# Altium integrated library Analog Devices Data Converters Analog-to-Digital Converters.IntLib: 2404 symbols (part 139 of 346)
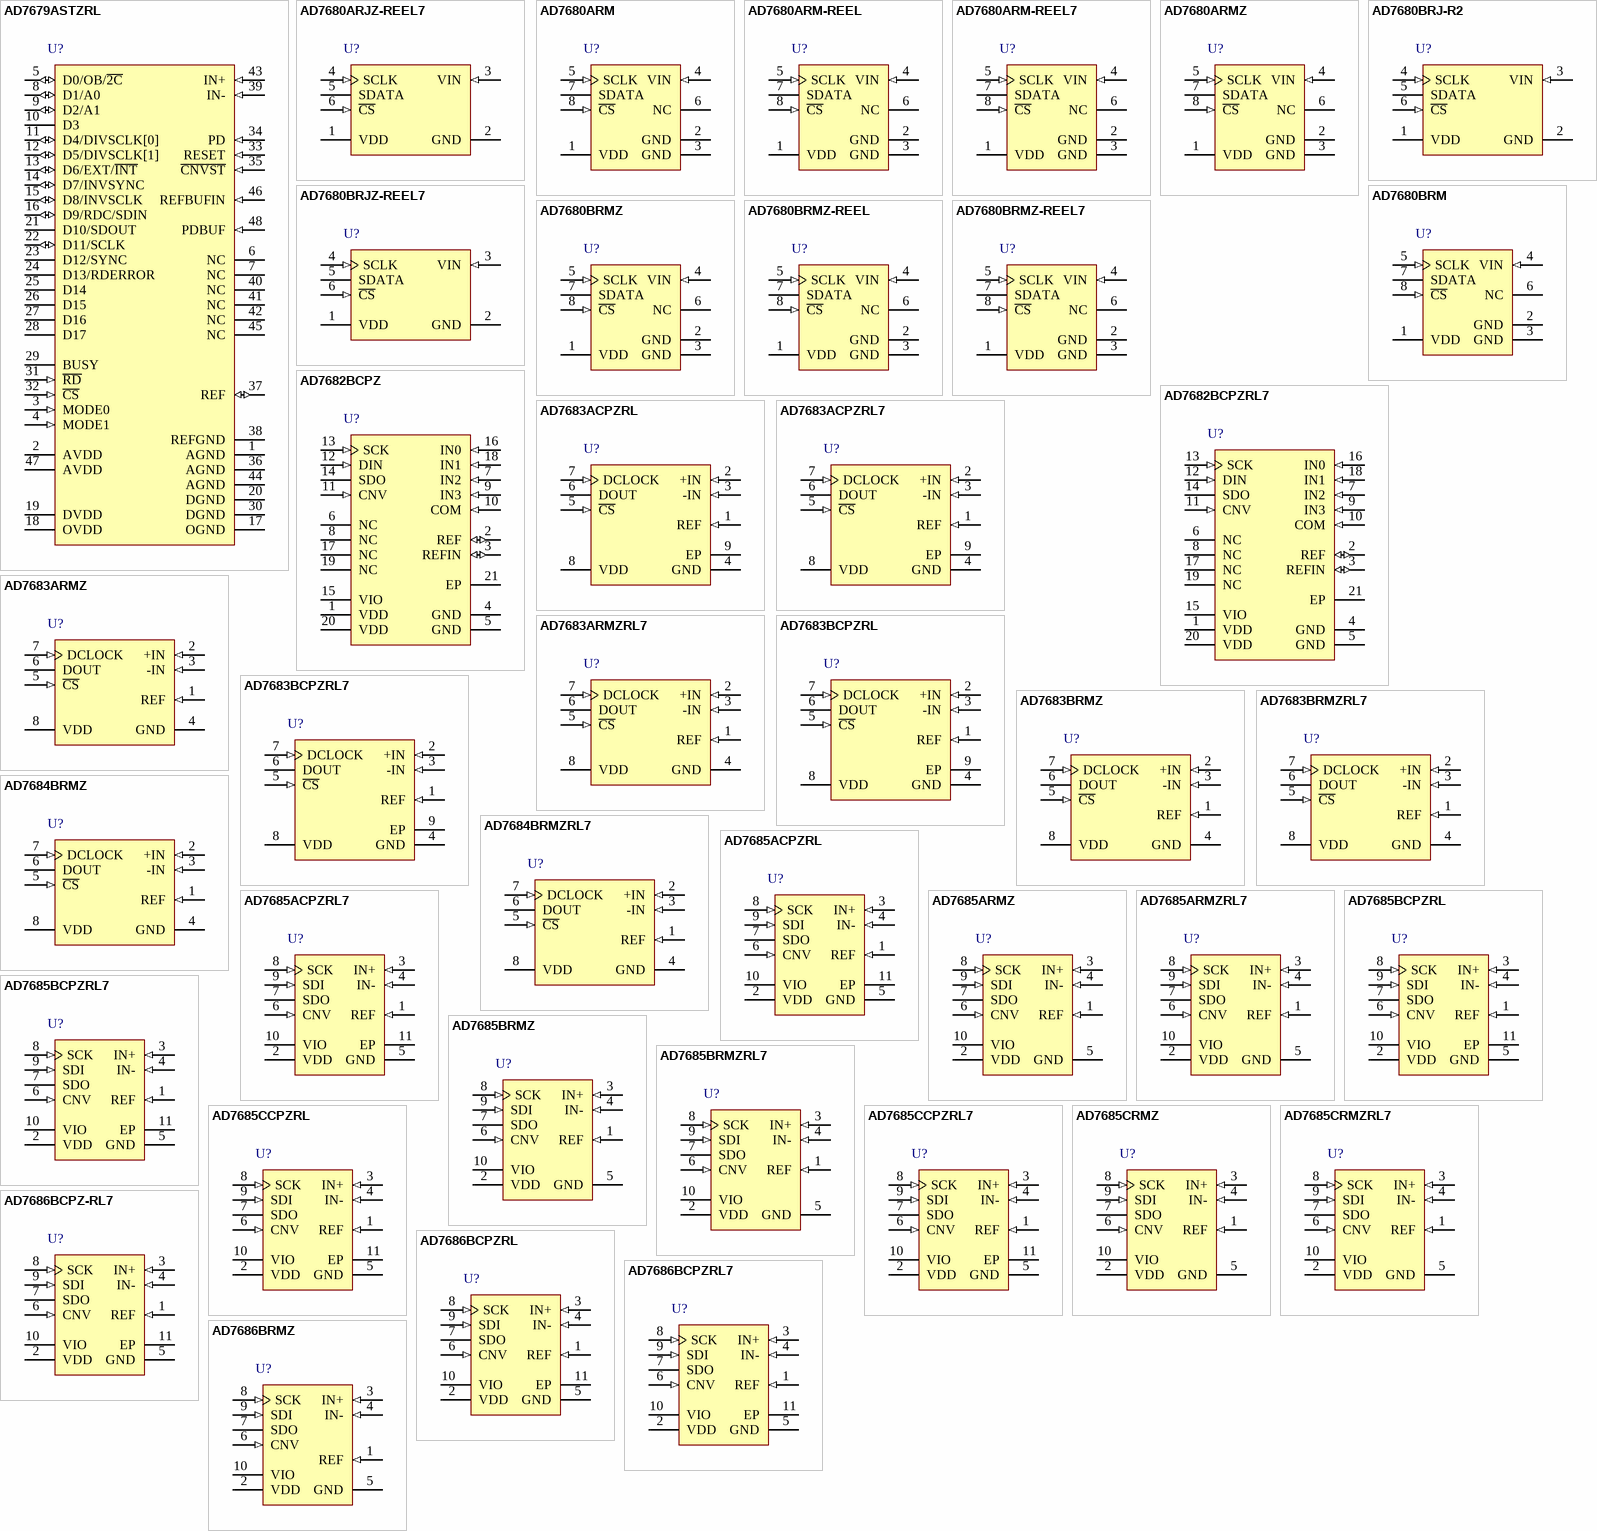
[diagram p232: symbols AD7679ASTZRL to AD7686BRMZ]

## AD7680ARM-REEL7
designator U?
Single 16-Bit Analog-to-Digital Converter with Serial, SPI Interface, 100KSPS, -40 to +85 degC, RM-8, Reel; Generic Part Number: AD7680; Manufacturer: Analog Devices; PartNumber: AD7680ARM-REEL7; Resolution (Bits): 16; Channels: 1; Throughput Rate (SPS): 100K; Interface: Ser, SPI; DatasheetVersion: Rev. A; PackageVersion: Aug-2005; PackageReference: RM-8; PackageDescription: 8-Lead Mini Small Outline Package [MSOP]; Supplier 1: Digi-Key; Supplier Part Number 1: AD7680ARM-REEL7-ND; Supplier 2: Mouser; Supplier Part Number 2: 584-AD7680ARM-R7; RoHS: N; Packing: Reel; Mounting Technology: Surface Mount; Code_JEDEC: MO-187-AA; ComponentLink1Description: Manufacturer URL; ComponentLink1URL: http://www.analog.com/en/index.html; ComponentLink2Description: Datasheet; ComponentLink2URL: http://www.analog.com/static/imported-files/data_sheets/AD7680.pdf; ComponentLink3Description: Package Specification; ComponentLink3URL: http://www.analog.com/static/imported-files/packages/PKG_PDF/MSOP%28RM%29/RM_8.pdf; ComponentLink4Description: Product URL; ComponentLink4URL: http://www.analog.com/en/analog-to-digital-converters/ad-converters/ad7680/products/product.html
footprint RM-8_N (TSOP, 8-Leads, Body 3x3mm, Pitch 0.65mm, IPC Medium Density)
footprint RM-8_L (TSOP, 8-Leads, Body 3x3mm, Pitch 0.65mm, IPC High Density)
footprint RM-8_M (TSOP, 8-Leads, Body 3x3mm, Pitch 0.65mm, IPC Low Density)
pins: 1 VDD (power) "Power Supply Input. The VDD range for the AD7680 is from 2.5 V to 5.5 V.", 2 GND (power) "Analog Ground. Ground reference point for all circuitry on the AD7680. All analog input signals should be referred to this GND voltage.", 3 GND (power) "Analog Ground. Ground reference point for all circuitry on the AD7680. All analog input signals should be referred to this GND voltage.", 4 VIN (in) "Analog Input. Single-ended analog input channel. The input range is 0 V to VDD", 5 SCLK (in) "Serial Clock. Logic input. SCLK provides the serial clock for accessing data from this part. This clock input is also used as the clock source for the AD7680's conversion process.", 6 NC "No Connect. This pin should be left unconnected.", 7 SDATA (hiz) "Data Out. Logic output. The conversion result from the AD7680 is provided on this output as a serial data stream. The bits are clocked out on the falling edge of the SCLK input. The data stream from the AD7680 consists of (See Datasheet)", 8 ~{CS} (in) "Chip Select. Active low logic input. This input provides the dual function of initiating conversions on the AD7680 and framing the serial data transfer."

## AD7680ARMZ
designator U?
Single 16-Bit Analog-to-Digital Converter with Serial, SPI Interface, 100KSPS, -40 to +85 degC, RM-8, Pb-Free, Tube; Generic Part Number: AD7680; Manufacturer: Analog Devices; PartNumber: AD7680ARMZ; Resolution (Bits): 16; Channels: 1; Throughput Rate (SPS): 100K; Interface: Ser, SPI; DatasheetVersion: Rev. A; PackageVersion: Aug-2005; PackageReference: RM-8; PackageDescription: 8-Lead Mini Small Outline Package [MSOP]; Supplier 1: Digi-Key; Supplier Part Number 1: AD7680ARMZ-ND; Supplier 2: Farnell; Supplier Part Number 2: 1581935; Supplier 3: Newark; Supplier Part Number 3: 59K5208; Supplier 4: Mouser; Supplier Part Number 4: 584-AD7680ARMZ; RoHS: Y; Packing: Tube; Mounting Technology: Surface Mount; Code_JEDEC: MO-187-AA; ComponentLink1Description: Manufacturer URL; ComponentLink1URL: http://www.analog.com/en/index.html; ComponentLink2Description: Datasheet; ComponentLink2URL: http://www.analog.com/static/imported-files/data_sheets/AD7680.pdf; ComponentLink3Description: Package Specification; ComponentLink3URL: http://www.analog.com/static/imported-files/packages/PKG_PDF/MSOP%28RM%29/RM_8.pdf; ComponentLink4Description: Product URL; ComponentLink4URL: http://www.analog.com/en/analog-to-digital-converters/ad-converters/ad7680/products/product.html
footprint RM-8_N (TSOP, 8-Leads, Body 3x3mm, Pitch 0.65mm, IPC Medium Density)
footprint RM-8_L (TSOP, 8-Leads, Body 3x3mm, Pitch 0.65mm, IPC High Density)
footprint RM-8_M (TSOP, 8-Leads, Body 3x3mm, Pitch 0.65mm, IPC Low Density)
pins: 1 VDD (power) "Power Supply Input. The VDD range for the AD7680 is from 2.5 V to 5.5 V.", 2 GND (power) "Analog Ground. Ground reference point for all circuitry on the AD7680. All analog input signals should be referred to this GND voltage.", 3 GND (power) "Analog Ground. Ground reference point for all circuitry on the AD7680. All analog input signals should be referred to this GND voltage.", 4 VIN (in) "Analog Input. Single-ended analog input channel. The input range is 0 V to VDD", 5 SCLK (in) "Serial Clock. Logic input. SCLK provides the serial clock for accessing data from this part. This clock input is also used as the clock source for the AD7680's conversion process.", 6 NC "No Connect. This pin should be left unconnected.", 7 SDATA (hiz) "Data Out. Logic output. The conversion result from the AD7680 is provided on this output as a serial data stream. The bits are clocked out on the falling edge of the SCLK input. The data stream from the AD7680 consists of (See Datasheet)", 8 ~{CS} (in) "Chip Select. Active low logic input. This input provides the dual function of initiating conversions on the AD7680 and framing the serial data transfer."

## AD7680BRJ-R2
designator U?
Single 16-Bit Analog-to-Digital Converter with Serial, SPI Interface, 100KSPS, -40 to +85 degC, RJ-6, Reel; Generic Part Number: AD7680; Manufacturer: Analog Devices; PartNumber: AD7680BRJ-R2; Resolution (Bits): 16; Channels: 1; Throughput Rate (SPS): 100K; Interface: Ser, SPI; DatasheetVersion: Rev. A; PackageVersion: 121608-A; PackageReference: RJ-6; PackageDescription: 6-Lead Small Outline Transistor Package [SOT-23]; Supplier 1: Newark; Supplier Part Number 1: 59K5211; RoHS: N; Packing: Reel; Mounting Technology: Surface Mount; Code_JEDEC: MO-178-AB; ComponentLink1Description: Manufacturer URL; ComponentLink1URL: http://www.analog.com/en/index.html; ComponentLink2Description: Datasheet; ComponentLink2URL: http://www.analog.com/static/imported-files/data_sheets/AD7680.pdf; ComponentLink3Description: Package Specification; ComponentLink3URL: http://www.analog.com/static/imported-files/packages/PKG_PDF/SOT-23(RJ)/RJ_6.pdf; ComponentLink4Description: Product URL; ComponentLink4URL: http://www.analog.com/en/analog-to-digital-converters/ad-converters/ad7680/products/product.html
footprint RJ-6_N (SOT23, 6-Leads, Body 2.9x1.6mm, Pitch 0.95mm, Lead Span 2.8mm, IPC Medium Density)
footprint RJ-6_L (SOT23, 6-Leads, Body 2.9x1.6mm, Pitch 0.95mm, Lead Span 2.8mm, IPC High Density)
footprint RJ-6_M (SOT23, 6-Leads, Body 2.9x1.6mm, Pitch 0.95mm, Lead Span 2.8mm, IPC Low Density)
pins: 1 VDD (power) "Power Supply Input. The VDD range for the AD7680 is from 2.5 V to 5.5 V.", 2 GND (power) "Analog Ground. Ground reference point for all circuitry on the AD7680. All analog input signals should be referred to this GND voltage.", 3 VIN (in) "Analog Input. Single-ended analog input channel. The input range is 0 V to VDD.", 4 SCLK (in) "Serial Clock. Logic input. SCLK provides the serial clock for accessing data from this part. This clock input is also used as the clock source for the AD7680's conversion process.", 5 SDATA (hiz) "Data Out. Logic output. The conversion result from the AD7680 is provided on this output as a serial  data stream. The bits are clocked out on the falling edge of the SCLK input. The data stream from the AD7680 consists of (See Datasheet)", 6 ~{CS} (in) "Chip Select. Active low logic input. This input provides the dual function of initiating conversions on the AD7680 and framing the serial data transfer."

## AD7680BRJZ-REEL7
designator U?
Single 16-Bit Analog-to-Digital Converter with Serial, SPI Interface, 100KSPS, -40 to +85 degC, RJ-6, Pb-Free, Reel; Generic Part Number: AD7680; Manufacturer: Analog Devices; PartNumber: AD7680BRJZ-REEL7; Resolution (Bits): 16; Channels: 1; Throughput Rate (SPS): 100K; Interface: Ser, SPI; DatasheetVersion: Rev. A; PackageVersion: 121608-A; PackageReference: RJ-6; PackageDescription: 6-Lead Small Outline Transistor Package [SOT-23]; Supplier 1: Digi-Key; Supplier Part Number 1: AD7680BRJZ-REEL7TR-ND; Supplier 2: Digi-Key; Supplier Part Number 2: AD7680BRJZ-REEL7CT-ND; Supplier 3: Digi-Key; Supplier Part Number 3: AD7680BRJZ-REEL7DKR-ND; Supplier 4: Newark; Supplier Part Number 4: 59K5213; Supplier 5: Mouser; Supplier Part Number 5: 584-AD7680BRJZ-R7; RoHS: Y; Packing: Reel; Mounting Technology: Surface Mount; Code_JEDEC: MO-178-AB; ComponentLink1Description: Manufacturer URL; ComponentLink1URL: http://www.analog.com/en/index.html; ComponentLink2Description: Datasheet; ComponentLink2URL: http://www.analog.com/static/imported-files/data_sheets/AD7680.pdf; ComponentLink3Description: Package Specification; ComponentLink3URL: http://www.analog.com/static/imported-files/packages/PKG_PDF/SOT-23(RJ)/RJ_6.pdf; ComponentLink4Description: Product URL; ComponentLink4URL: http://www.analog.com/en/analog-to-digital-converters/ad-converters/ad7680/products/product.html
footprint RJ-6_N (SOT23, 6-Leads, Body 2.9x1.6mm, Pitch 0.95mm, Lead Span 2.8mm, IPC Medium Density)
footprint RJ-6_L (SOT23, 6-Leads, Body 2.9x1.6mm, Pitch 0.95mm, Lead Span 2.8mm, IPC High Density)
footprint RJ-6_M (SOT23, 6-Leads, Body 2.9x1.6mm, Pitch 0.95mm, Lead Span 2.8mm, IPC Low Density)
pins: 1 VDD (power) "Power Supply Input. The VDD range for the AD7680 is from 2.5 V to 5.5 V.", 2 GND (power) "Analog Ground. Ground reference point for all circuitry on the AD7680. All analog input signals should be referred to this GND voltage.", 3 VIN (in) "Analog Input. Single-ended analog input channel. The input range is 0 V to VDD.", 4 SCLK (in) "Serial Clock. Logic input. SCLK provides the serial clock for accessing data from this part. This clock input is also used as the clock source for the AD7680's conversion process.", 5 SDATA (hiz) "Data Out. Logic output. The conversion result from the AD7680 is provided on this output as a serial  data stream. The bits are clocked out on the falling edge of the SCLK input. The data stream from the AD7680 consists of (See Datasheet)", 6 ~{CS} (in) "Chip Select. Active low logic input. This input provides the dual function of initiating conversions on the AD7680 and framing the serial data transfer."

## AD7680BRM
designator U?
Single 16-Bit Analog-to-Digital Converter with Serial, SPI Interface, 100KSPS, -40 to +85 degC, RM-8, Tube; Generic Part Number: AD7680; Manufacturer: Analog Devices; PartNumber: AD7680BRM; Resolution (Bits): 16; Channels: 1; Throughput Rate (SPS): 100K; Interface: Ser, SPI; DatasheetVersion: Rev. A; PackageVersion: Aug-2005; PackageReference: RM-8; PackageDescription: 8-Lead Mini Small Outline Package [MSOP]; Supplier 1: Digi-Key; Supplier Part Number 1: AD7680BRM-ND; Supplier 2: Mouser; Supplier Part Number 2: 584-AD7680BRM; RoHS: N; Packing: Tube; Mounting Technology: Surface Mount; Code_JEDEC: MO-187-AA; ComponentLink1Description: Manufacturer URL; ComponentLink1URL: http://www.analog.com/en/index.html; ComponentLink2Description: Datasheet; ComponentLink2URL: http://www.analog.com/static/imported-files/data_sheets/AD7680.pdf; ComponentLink3Description: Package Specification; ComponentLink3URL: http://www.analog.com/static/imported-files/packages/PKG_PDF/MSOP%28RM%29/RM_8.pdf; ComponentLink4Description: Product URL; ComponentLink4URL: http://www.analog.com/en/analog-to-digital-converters/ad-converters/ad7680/products/product.html
footprint RM-8_N (TSOP, 8-Leads, Body 3x3mm, Pitch 0.65mm, IPC Medium Density)
footprint RM-8_L (TSOP, 8-Leads, Body 3x3mm, Pitch 0.65mm, IPC High Density)
footprint RM-8_M (TSOP, 8-Leads, Body 3x3mm, Pitch 0.65mm, IPC Low Density)
pins: 1 VDD (power) "Power Supply Input. The VDD range for the AD7680 is from 2.5 V to 5.5 V.", 2 GND (power) "Analog Ground. Ground reference point for all circuitry on the AD7680. All analog input signals should be referred to this GND voltage.", 3 GND (power) "Analog Ground. Ground reference point for all circuitry on the AD7680. All analog input signals should be referred to this GND voltage.", 4 VIN (in) "Analog Input. Single-ended analog input channel. The input range is 0 V to VDD", 5 SCLK (in) "Serial Clock. Logic input. SCLK provides the serial clock for accessing data from this part. This clock input is also used as the clock source for the AD7680's conversion process.", 6 NC "No Connect. This pin should be left unconnected.", 7 SDATA (hiz) "Data Out. Logic output. The conversion result from the AD7680 is provided on this output as a serial data stream. The bits are clocked out on the falling edge of the SCLK input. The data stream from the AD7680 consists of (See Datasheet)", 8 ~{CS} (in) "Chip Select. Active low logic input. This input provides the dual function of initiating conversions on the AD7680 and framing the serial data transfer."

## AD7680BRMZ
designator U?
Single 16-Bit Analog-to-Digital Converter with Serial, SPI Interface, 100KSPS, -40 to +85 degC, RM-8, Pb-Free, Tube; Generic Part Number: AD7680; Manufacturer: Analog Devices; PartNumber: AD7680BRMZ; Resolution (Bits): 16; Channels: 1; Throughput Rate (SPS): 100K; Interface: Ser, SPI; DatasheetVersion: Rev. A; PackageVersion: Aug-2005; PackageReference: RM-8; PackageDescription: 8-Lead Mini Small Outline Package [MSOP]; Supplier 1: Digi-Key; Supplier Part Number 1: AD7680BRMZ-ND; Supplier 2: Farnell; Supplier Part Number 2: 1581936; Supplier 3: Farnell; Supplier Part Number 3: 2144373; Supplier 4: Newark; Supplier Part Number 4: 19M8845; Supplier 5: Mouser; Supplier Part Number 5: 584-AD7680BRMZ; RoHS: Y; Packing: Tube; Mounting Technology: Surface Mount; Code_JEDEC: MO-187-AA; ComponentLink1Description: Manufacturer URL; ComponentLink1URL: http://www.analog.com/en/index.html; ComponentLink2Description: Datasheet; ComponentLink2URL: http://www.analog.com/static/imported-files/data_sheets/AD7680.pdf; ComponentLink3Description: Package Specification; ComponentLink3URL: http://www.analog.com/static/imported-files/packages/PKG_PDF/MSOP%28RM%29/RM_8.pdf; ComponentLink4Description: Product URL; ComponentLink4URL: http://www.analog.com/en/analog-to-digital-converters/ad-converters/ad7680/products/product.html
footprint RM-8_N (TSOP, 8-Leads, Body 3x3mm, Pitch 0.65mm, IPC Medium Density)
footprint RM-8_L (TSOP, 8-Leads, Body 3x3mm, Pitch 0.65mm, IPC High Density)
footprint RM-8_M (TSOP, 8-Leads, Body 3x3mm, Pitch 0.65mm, IPC Low Density)
pins: 1 VDD (power) "Power Supply Input. The VDD range for the AD7680 is from 2.5 V to 5.5 V.", 2 GND (power) "Analog Ground. Ground reference point for all circuitry on the AD7680. All analog input signals should be referred to this GND voltage.", 3 GND (power) "Analog Ground. Ground reference point for all circuitry on the AD7680. All analog input signals should be referred to this GND voltage.", 4 VIN (in) "Analog Input. Single-ended analog input channel. The input range is 0 V to VDD", 5 SCLK (in) "Serial Clock. Logic input. SCLK provides the serial clock for accessing data from this part. This clock input is also used as the clock source for the AD7680's conversion process.", 6 NC "No Connect. This pin should be left unconnected.", 7 SDATA (hiz) "Data Out. Logic output. The conversion result from the AD7680 is provided on this output as a serial data stream. The bits are clocked out on the falling edge of the SCLK input. The data stream from the AD7680 consists of (See Datasheet)", 8 ~{CS} (in) "Chip Select. Active low logic input. This input provides the dual function of initiating conversions on the AD7680 and framing the serial data transfer."

## AD7680BRMZ-REEL
designator U?
Single 16-Bit Analog-to-Digital Converter with Serial, SPI Interface, 100KSPS, -40 to +85 degC, RM-8, Pb-Free, Reel; Generic Part Number: AD7680; Manufacturer: Analog Devices; PartNumber: AD7680BRMZ-REEL; Resolution (Bits): 16; Channels: 1; Throughput Rate (SPS): 100K; Interface: Ser, SPI; DatasheetVersion: Rev. A; PackageVersion: Aug-2005; PackageReference: RM-8; PackageDescription: 8-Lead Mini Small Outline Package [MSOP]; Supplier 1: Digi-Key; Supplier Part Number 1: AD7680BRMZ-REEL-ND; Supplier 2: Mouser; Supplier Part Number 2: 584-AD7680BRMZ-R; RoHS: Y; Packing: Reel; Mounting Technology: Surface Mount; Code_JEDEC: MO-187-AA; ComponentLink1Description: Manufacturer URL; ComponentLink1URL: http://www.analog.com/en/index.html; ComponentLink2Description: Datasheet; ComponentLink2URL: http://www.analog.com/static/imported-files/data_sheets/AD7680.pdf; ComponentLink3Description: Package Specification; ComponentLink3URL: http://www.analog.com/static/imported-files/packages/PKG_PDF/MSOP%28RM%29/RM_8.pdf; ComponentLink4Description: Product URL; ComponentLink4URL: http://www.analog.com/en/analog-to-digital-converters/ad-converters/ad7680/products/product.html
footprint RM-8_N (TSOP, 8-Leads, Body 3x3mm, Pitch 0.65mm, IPC Medium Density)
footprint RM-8_L (TSOP, 8-Leads, Body 3x3mm, Pitch 0.65mm, IPC High Density)
footprint RM-8_M (TSOP, 8-Leads, Body 3x3mm, Pitch 0.65mm, IPC Low Density)
pins: 1 VDD (power) "Power Supply Input. The VDD range for the AD7680 is from 2.5 V to 5.5 V.", 2 GND (power) "Analog Ground. Ground reference point for all circuitry on the AD7680. All analog input signals should be referred to this GND voltage.", 3 GND (power) "Analog Ground. Ground reference point for all circuitry on the AD7680. All analog input signals should be referred to this GND voltage.", 4 VIN (in) "Analog Input. Single-ended analog input channel. The input range is 0 V to VDD", 5 SCLK (in) "Serial Clock. Logic input. SCLK provides the serial clock for accessing data from this part. This clock input is also used as the clock source for the AD7680's conversion process.", 6 NC "No Connect. This pin should be left unconnected.", 7 SDATA (hiz) "Data Out. Logic output. The conversion result from the AD7680 is provided on this output as a serial data stream. The bits are clocked out on the falling edge of the SCLK input. The data stream from the AD7680 consists of (See Datasheet)", 8 ~{CS} (in) "Chip Select. Active low logic input. This input provides the dual function of initiating conversions on the AD7680 and framing the serial data transfer."

## AD7680BRMZ-REEL7
designator U?
Single 16-Bit Analog-to-Digital Converter with Serial, SPI Interface, 100KSPS, -40 to +85 degC, RM-8, Pb-Free, Reel; Generic Part Number: AD7680; Manufacturer: Analog Devices; PartNumber: AD7680BRMZ-REEL7; Resolution (Bits): 16; Channels: 1; Throughput Rate (SPS): 100K; Interface: Ser, SPI; DatasheetVersion: Rev. A; PackageVersion: Aug-2005; PackageReference: RM-8; PackageDescription: 8-Lead Mini Small Outline Package [MSOP]; Supplier 1: Digi-Key; Supplier Part Number 1: AD7680BRMZ-REEL7-ND; Supplier 2: Mouser; Supplier Part Number 2: 584-AD7680BRMZ-R7; RoHS: Y; Packing: Reel; Mounting Technology: Surface Mount; Code_JEDEC: MO-187-AA; ComponentLink1Description: Manufacturer URL; ComponentLink1URL: http://www.analog.com/en/index.html; ComponentLink2Description: Datasheet; ComponentLink2URL: http://www.analog.com/static/imported-files/data_sheets/AD7680.pdf; ComponentLink3Description: Package Specification; ComponentLink3URL: http://www.analog.com/static/imported-files/packages/PKG_PDF/MSOP%28RM%29/RM_8.pdf; ComponentLink4Description: Product URL; ComponentLink4URL: http://www.analog.com/en/analog-to-digital-converters/ad-converters/ad7680/products/product.html
footprint RM-8_N (TSOP, 8-Leads, Body 3x3mm, Pitch 0.65mm, IPC Medium Density)
footprint RM-8_L (TSOP, 8-Leads, Body 3x3mm, Pitch 0.65mm, IPC High Density)
footprint RM-8_M (TSOP, 8-Leads, Body 3x3mm, Pitch 0.65mm, IPC Low Density)
pins: 1 VDD (power) "Power Supply Input. The VDD range for the AD7680 is from 2.5 V to 5.5 V.", 2 GND (power) "Analog Ground. Ground reference point for all circuitry on the AD7680. All analog input signals should be referred to this GND voltage.", 3 GND (power) "Analog Ground. Ground reference point for all circuitry on the AD7680. All analog input signals should be referred to this GND voltage.", 4 VIN (in) "Analog Input. Single-ended analog input channel. The input range is 0 V to VDD", 5 SCLK (in) "Serial Clock. Logic input. SCLK provides the serial clock for accessing data from this part. This clock input is also used as the clock source for the AD7680's conversion process.", 6 NC "No Connect. This pin should be left unconnected.", 7 SDATA (hiz) "Data Out. Logic output. The conversion result from the AD7680 is provided on this output as a serial data stream. The bits are clocked out on the falling edge of the SCLK input. The data stream from the AD7680 consists of (See Datasheet)", 8 ~{CS} (in) "Chip Select. Active low logic input. This input provides the dual function of initiating conversions on the AD7680 and framing the serial data transfer."

## AD7682BCPZ
designator U?
Quad 16-Bit PulSAR Analog-to-Digital Converter with Serial, SPI Interface, 250KSPS, -40 to +85 degC, CP-20-4, Pb-Free, Tray; Generic Part Number: AD7682; Manufacturer: Analog Devices; PartNumber: AD7682BCPZ; Resolution (Bits): 16; Channels: 4; Throughput Rate (SPS): 250K; Interface: Ser, SPI; DatasheetVersion: Rev.D; PackageVersion: 012508-B; PackageReference: CP-20-4; PackageDescription: 20-Lead Lead Frame Chip Scale Package [LFCSP_VQ] 4 x 4 mm Body, Very Thin Quad; Supplier 1: Digi-Key; Supplier Part Number 1: AD7682BCPZ-ND; Supplier 2: Farnell; Supplier Part Number 2: 2067751; Supplier 3: Newark; Supplier Part Number 3: 14N5814; Supplier 4: Mouser; Supplier Part Number 4: 584-AD7682BCPZ; RoHS: Y; Packing: Tray; Mounting Technology: Surface Mount; Code_JEDEC: MO-220-VGGD-1; ComponentLink1Description: Manufacturer URL; ComponentLink1URL: http://www.analog.com/en/index.html; ComponentLink2Description: Datasheet; ComponentLink2URL: http://www.analog.com/static/imported-files/data_sheets/AD7682_7689.pdf; ComponentLink3Description: Package Specification; ComponentLink3URL: http://www.analog.com/static/imported-files/packages/PKG_PDF/LFCSP(CP)/CP_20_4.pdf; ComponentLink4Description: Product URL; ComponentLink4URL: http://www.analog.com/en/analog-to-digital-converters/ad-converters/ad7682/products/product.html
footprint CP-20-4_N (QFN, 20-Leads, Body 4x4mm, Pitch 0.5mm, Thermal Pad 2.5x2.5mm, IPC Medium Density)
footprint CP-20-4_L (QFN, 20-Leads, Body 4x4mm, Pitch 0.5mm, Thermal Pad 2.5x2.5mm, IPC High Density)
footprint CP-20-4_M (QFN, 20-Leads, Body 4x4mm, Pitch 0.5mm, Thermal Pad 2.5x2.5mm, IPC Low Density)
pins: 1 VDD (power) "Power Supply. Nominally 2.5 V to 5.5 V when using an external reference and decoupled with 10 uF and 100 nF capacitors. When using the internal reference for a2.5 V output, the minimum should be 3.0 V. When using the (See Datasheet)", 2 REF (io) "Reference Input/Output. See the Voltage Reference Output/Input section. When the internal reference is enabled, this pin produces a selectable system reference of 2.5 V or 4.096 V. When the internal reference is disabled and (See Datasheet)", 3 REFIN (io) "Internal Reference Output/Reference Buffer Input. See the Voltage Reference Output/Input section. When using the internal reference, the internal unbuffered reference voltage is present and needs decoupling with a 0.1 uF (See Datasheet)", 4 GND (power) "Power Supply Ground.", 5 GND (power) "Power Supply Ground.", 6 NC "no connection.", 7 IN2 (in) "Analog Input Channel 2.", 8 NC "no connection.", 9 IN3 (in) "Analog Input Channel 3.", 10 COM (in) "Common Channel Input. All input channels, IN[7:0], can be referenced to a common-mode point of 0 V or VREF/2 V.", 11 CNV (in) "Conversion Input. On the rising edge, CNV initiates the conversion. During conversion, if CNV is held low, the busy indictor is enabled.", 12 DIN (in) "Data Input. This input is used for writing to the 14-bit configuration register. The configuration register can be written to during and after conversion.", 13 SCK (in) "Serial Data Clock Input. This input is used to clock out the data on SDO and clock in data on DIN in an MSB first fashion.", 14 SDO (hiz) "Serial Data Output. The conversion result is output on this pin, synchronized to SCK. In unipolar modes, conversion results are straight binary; in bipolar modes, conversion results are twos complement.", 15 VIO (power) "Input/Output Interface Digital Power. Nominally at the same supply as the host interface (1.8 V, 2.5 V, 3 V, or 5 V).", 16 IN0 (in) "Analog Input Channel 0.", 17 NC "no connection.", 18 IN1 (in) "Analog Input Channel 1.", 19 NC "no connection.", 20 VDD (power) "Power Supply. Nominally 2.5 V to 5.5 V when using an external reference and decoupled with 10 uF and 100 nF capacitors. When using the internal reference for a2.5 V output, the minimum should be 3.0 V. When using the (See Datasheet)", 21 EP (power) "The exposed pad is not connected internally. For increased reliability of the solder joints, it is recommended that the pad be soldered to the system ground plane."

## AD7682BCPZRL7
designator U?
Quad 16-Bit PulSAR Analog-to-Digital Converter with Serial, SPI Interface, 250KSPS, -40 to +85 degC, CP-20-4, Pb-Free, Reel; Generic Part Number: AD7682; Manufacturer: Analog Devices; PartNumber: AD7682BCPZRL7; Resolution (Bits): 16; Channels: 4; Throughput Rate (SPS): 250K; Interface: Ser, SPI; DatasheetVersion: Rev.D; PackageVersion: 012508-B; PackageReference: CP-20-4; PackageDescription: 20-Lead Lead Frame Chip Scale Package [LFCSP_VQ] 4 x 4 mm Body, Very Thin Quad; Supplier 1: Digi-Key; Supplier Part Number 1: AD7682BCPZRL7TR-ND; Supplier 2: Digi-Key; Supplier Part Number 2: AD7682BCPZRL7CT-ND; Supplier 3: Digi-Key; Supplier Part Number 3: AD7682BCPZRL7DKR-ND; Supplier 4: Newark; Supplier Part Number 4: 14N5815; Supplier 5: Mouser; Supplier Part Number 5: 584-AD7682BCPZR7; RoHS: Y; Packing: Reel; Mounting Technology: Surface Mount; Code_JEDEC: MO-220-VGGD-1; ComponentLink1Description: Manufacturer URL; ComponentLink1URL: http://www.analog.com/en/index.html; ComponentLink2Description: Datasheet; ComponentLink2URL: http://www.analog.com/static/imported-files/data_sheets/AD7682_7689.pdf; ComponentLink3Description: Package Specification; ComponentLink3URL: http://www.analog.com/static/imported-files/packages/PKG_PDF/LFCSP(CP)/CP_20_4.pdf; ComponentLink4Description: Product URL; ComponentLink4URL: http://www.analog.com/en/analog-to-digital-converters/ad-converters/ad7682/products/product.html
footprint CP-20-4_N (QFN, 20-Leads, Body 4x4mm, Pitch 0.5mm, Thermal Pad 2.5x2.5mm, IPC Medium Density)
footprint CP-20-4_L (QFN, 20-Leads, Body 4x4mm, Pitch 0.5mm, Thermal Pad 2.5x2.5mm, IPC High Density)
footprint CP-20-4_M (QFN, 20-Leads, Body 4x4mm, Pitch 0.5mm, Thermal Pad 2.5x2.5mm, IPC Low Density)
pins: 1 VDD (power) "Power Supply. Nominally 2.5 V to 5.5 V when using an external reference and decoupled with 10 uF and 100 nF capacitors. When using the internal reference for a2.5 V output, the minimum should be 3.0 V. When using the (See Datasheet)", 2 REF (io) "Reference Input/Output. See the Voltage Reference Output/Input section. When the internal reference is enabled, this pin produces a selectable system reference of 2.5 V or 4.096 V. When the internal reference is disabled and (See Datasheet)", 3 REFIN (io) "Internal Reference Output/Reference Buffer Input. See the Voltage Reference Output/Input section. When using the internal reference, the internal unbuffered reference voltage is present and needs decoupling with a 0.1 uF (See Datasheet)", 4 GND (power) "Power Supply Ground.", 5 GND (power) "Power Supply Ground.", 6 NC "no connection.", 7 IN2 (in) "Analog Input Channel 2.", 8 NC "no connection.", 9 IN3 (in) "Analog Input Channel 3.", 10 COM (in) "Common Channel Input. All input channels, IN[7:0], can be referenced to a common-mode point of 0 V or VREF/2 V.", 11 CNV (in) "Conversion Input. On the rising edge, CNV initiates the conversion. During conversion, if CNV is held low, the busy indictor is enabled.", 12 DIN (in) "Data Input. This input is used for writing to the 14-bit configuration register. The configuration register can be written to during and after conversion.", 13 SCK (in) "Serial Data Clock Input. This input is used to clock out the data on SDO and clock in data on DIN in an MSB first fashion.", 14 SDO (hiz) "Serial Data Output. The conversion result is output on this pin, synchronized to SCK. In unipolar modes, conversion results are straight binary; in bipolar modes, conversion results are twos complement.", 15 VIO (power) "Input/Output Interface Digital Power. Nominally at the same supply as the host interface (1.8 V, 2.5 V, 3 V, or 5 V).", 16 IN0 (in) "Analog Input Channel 0.", 17 NC "no connection.", 18 IN1 (in) "Analog Input Channel 1.", 19 NC "no connection.", 20 VDD (power) "Power Supply. Nominally 2.5 V to 5.5 V when using an external reference and decoupled with 10 uF and 100 nF capacitors. When using the internal reference for a2.5 V output, the minimum should be 3.0 V. When using the (See Datasheet)", 21 EP (power) "The exposed pad is not connected internally. For increased reliability of the solder joints, it is recommended that the pad be soldered to the system ground plane."

## AD7683ACPZRL
designator U?
Single 16-Bit PulSAR Analog-to-Digital Converter with Serial, SPI Interface, 100KSPS, -40 to +85 degC, CP-8-3, Pb-Free, Reel; Generic Part Number: AD7683; Manufacturer: Analog Devices; PartNumber: AD7683ACPZRL; Resolution (Bits): 16; Channels: 1; Throughput Rate (SPS): 100K; Interface: Ser, SPI; DatasheetVersion: Rev.A; PackageVersion: 041608-B; PackageReference: CP-8-3; PackageDescription: 8-Lead Lead Frame Chip Scale Package [LFCSP_WD] 3 x 3 mm Body, Very Very Thin, Dual Lead; Supplier 1: Digi-Key; Supplier Part Number 1: AD7683ACPZRL-ND; Supplier 2: Mouser; Supplier Part Number 2: 584-AD7683ACPZR; RoHS: Y; Packing: Reel; Mounting Technology: Surface Mount; ComponentLink1Description: Manufacturer URL; ComponentLink1URL: http://www.analog.com/en/index.html; ComponentLink2Description: Datasheet; ComponentLink2URL: http://www.analog.com/static/imported-files/data_sheets/AD7683.pdf; ComponentLink3Description: Product URL; ComponentLink3URL: http://www.analog.com/en/analog-to-digital-converters/ad-converters/ad7683/products/product.html
footprint CP-8-3_N (SON, 8-Leads, Body 3x3mm, Pitch 0.65mm, Thermal Pad 2.35x1.6mm, IPC Medium Density)
footprint CP-8-3_L (SON, 8-Leads, Body 3x3mm, Pitch 0.65mm, Thermal Pad 2.35x1.6mm, IPC High Density)
footprint CP-8-3_M (SON, 8-Leads, Body 3x3mm, Pitch 0.65mm, Thermal Pad 2.35x1.6mm, IPC Low Density)
pins: 1 REF (in) "Reference Input Voltage. The REF range is from 0.5 V to VDD. It is referred to the GND pin. Decouple the REF pin closely to the GND pin with a ceramic capacitor of a few uF.", 2 +IN (in) "Analog Input. It is referred to Pin -IN. The voltage range, that is, the difference between +IN and -IN, is 0 V to VREF.", 3 -IN (in) "Analog Input Ground Sense. Connect this pin to either the analog ground plane or a remote sense ground.", 4 GND (power) "Power Supply Ground.", 5 ~{CS} (in) "Chip Select Input. On its falling edge, it initiates the conversions. The part returns to shutdown mode as soon as the conversion is completed. It also enables DOUT. When high, DOUT is high impedance.", 6 DOUT (hiz) "Serial Data Output. The conversion result is output on this pin. It is synchronized to DCLOCK.", 7 DCLOCK (in) "Serial Data Clock Input.", 8 VDD (power) "Power Supply.", 9 EP (power) "Exposed pad."

## AD7683ACPZRL7
designator U?
Single 16-Bit PulSAR Analog-to-Digital Converter with Serial, SPI Interface, 100KSPS, -40 to +85 degC, CP-8-3, Pb-Free, Reel; Generic Part Number: AD7683; Manufacturer: Analog Devices; PartNumber: AD7683ACPZRL7; Resolution (Bits): 16; Channels: 1; Throughput Rate (SPS): 100K; Interface: Ser, SPI; DatasheetVersion: Rev.A; PackageVersion: 041608-B; PackageReference: CP-8-3; PackageDescription: 8-Lead Lead Frame Chip Scale Package [LFCSP_WD] 3 x 3 mm Body, Very Very Thin, Dual Lead; Supplier 1: Digi-Key; Supplier Part Number 1: AD7683ACPZRL7TR-ND; Supplier 2: Digi-Key; Supplier Part Number 2: AD7683ACPZRL7CT-ND; Supplier 3: Digi-Key; Supplier Part Number 3: AD7683ACPZRL7DKR-ND; Supplier 4: Mouser; Supplier Part Number 4: 584-AD7683ACPZR7; RoHS: Y; Packing: Reel; Mounting Technology: Surface Mount; ComponentLink1Description: Manufacturer URL; ComponentLink1URL: http://www.analog.com/en/index.html; ComponentLink2Description: Datasheet; ComponentLink2URL: http://www.analog.com/static/imported-files/data_sheets/AD7683.pdf; ComponentLink3Description: Product URL; ComponentLink3URL: http://www.analog.com/en/analog-to-digital-converters/ad-converters/ad7683/products/product.html
footprint CP-8-3_N (SON, 8-Leads, Body 3x3mm, Pitch 0.65mm, Thermal Pad 2.35x1.6mm, IPC Medium Density)
footprint CP-8-3_L (SON, 8-Leads, Body 3x3mm, Pitch 0.65mm, Thermal Pad 2.35x1.6mm, IPC High Density)
footprint CP-8-3_M (SON, 8-Leads, Body 3x3mm, Pitch 0.65mm, Thermal Pad 2.35x1.6mm, IPC Low Density)
pins: 1 REF (in) "Reference Input Voltage. The REF range is from 0.5 V to VDD. It is referred to the GND pin. Decouple the REF pin closely to the GND pin with a ceramic capacitor of a few uF.", 2 +IN (in) "Analog Input. It is referred to Pin -IN. The voltage range, that is, the difference between +IN and -IN, is 0 V to VREF.", 3 -IN (in) "Analog Input Ground Sense. Connect this pin to either the analog ground plane or a remote sense ground.", 4 GND (power) "Power Supply Ground.", 5 ~{CS} (in) "Chip Select Input. On its falling edge, it initiates the conversions. The part returns to shutdown mode as soon as the conversion is completed. It also enables DOUT. When high, DOUT is high impedance.", 6 DOUT (hiz) "Serial Data Output. The conversion result is output on this pin. It is synchronized to DCLOCK.", 7 DCLOCK (in) "Serial Data Clock Input.", 8 VDD (power) "Power Supply.", 9 EP (power) "Exposed pad."

## AD7683ARMZ
designator U?
Single 16-Bit PulSAR Analog-to-Digital Converter with Serial, SPI Interface, 100KSPS, -40 to +85 degC, RM-8, Pb-Free, Tube; Generic Part Number: AD7683; Manufacturer: Analog Devices; PartNumber: AD7683ARMZ; Resolution (Bits): 16; Channels: 1; Throughput Rate (SPS): 100K; Interface: Ser, SPI; DatasheetVersion: Rev.A; PackageVersion: Aug-2005; PackageReference: RM-8; PackageDescription: 8-Lead Mini Small Outline Package [MSOP]; Supplier 1: Digi-Key; Supplier Part Number 1: AD7683ARMZ-ND; Supplier 2: Farnell; Supplier Part Number 2: 1389155; Supplier 3: Newark; Supplier Part Number 3: 19M8846; Supplier 4: Mouser; Supplier Part Number 4: 584-AD7683ARMZ; RoHS: Y; Packing: Tube; Mounting Technology: Surface Mount; Code_JEDEC: MO-187-AA; ComponentLink1Description: Manufacturer URL; ComponentLink1URL: http://www.analog.com/en/index.html; ComponentLink2Description: Datasheet; ComponentLink2URL: http://www.analog.com/static/imported-files/data_sheets/AD7683.pdf; ComponentLink3Description: Package Specification; ComponentLink3URL: http://www.analog.com/static/imported-files/packages/PKG_PDF/MSOP%28RM%29/RM_8.pdf; ComponentLink4Description: Product URL; ComponentLink4URL: http://www.analog.com/en/analog-to-digital-converters/ad-converters/ad7683/products/product.html
footprint RM-8_N (TSOP, 8-Leads, Body 3x3mm, Pitch 0.65mm, IPC Medium Density)
footprint RM-8_L (TSOP, 8-Leads, Body 3x3mm, Pitch 0.65mm, IPC High Density)
footprint RM-8_M (TSOP, 8-Leads, Body 3x3mm, Pitch 0.65mm, IPC Low Density)
pins: 1 REF (in) "Reference Input Voltage. The REF range is from 0.5 V to VDD. It is referred to the GND pin. Decouple the REF pin closely to the GND pin with a ceramic capacitor of a few uF.", 2 +IN (in) "Analog Input. It is referred to Pin -IN. The voltage range, that is, the difference between +IN and -IN, is 0 V to VREF.", 3 -IN (in) "Analog Input Ground Sense. Connect this pin to either the analog ground plane or a remote sense ground.", 4 GND (power) "Power Supply Ground.", 5 ~{CS} (in) "Chip Select Input. On its falling edge, it initiates the conversions. The part returns to shutdown mode as soon as the conversion is completed. It also enables DOUT. When high, DOUT is high impedance.", 6 DOUT (hiz) "Serial Data Output. The conversion result is output on this pin. It is synchronized to DCLOCK.", 7 DCLOCK (in) "Serial Data Clock Input.", 8 VDD (power) "Power Supply."

## AD7683ARMZRL7
designator U?
Single 16-Bit PulSAR Analog-to-Digital Converter with Serial, SPI Interface, 100KSPS, -40 to +85 degC, RM-8, Pb-Free, Reel; Generic Part Number: AD7683; Manufacturer: Analog Devices; PartNumber: AD7683ARMZRL7; Resolution (Bits): 16; Channels: 1; Throughput Rate (SPS): 100K; Interface: Ser, SPI; DatasheetVersion: Rev.A; PackageVersion: Aug-2005; PackageReference: RM-8; PackageDescription: 8-Lead Mini Small Outline Package [MSOP]; Supplier 1: Digi-Key; Supplier Part Number 1: AD7683ARMZRL7-ND; Supplier 2: Newark; Supplier Part Number 2: 12M8911; Supplier 3: Mouser; Supplier Part Number 3: 584-AD7683ARMZR7; RoHS: Y; Packing: Reel; Mounting Technology: Surface Mount; Code_JEDEC: MO-187-AA; ComponentLink1Description: Manufacturer URL; ComponentLink1URL: http://www.analog.com/en/index.html; ComponentLink2Description: Datasheet; ComponentLink2URL: http://www.analog.com/static/imported-files/data_sheets/AD7683.pdf; ComponentLink3Description: Package Specification; ComponentLink3URL: http://www.analog.com/static/imported-files/packages/PKG_PDF/MSOP%28RM%29/RM_8.pdf; ComponentLink4Description: Product URL; ComponentLink4URL: http://www.analog.com/en/analog-to-digital-converters/ad-converters/ad7683/products/product.html
footprint RM-8_N (TSOP, 8-Leads, Body 3x3mm, Pitch 0.65mm, IPC Medium Density)
footprint RM-8_L (TSOP, 8-Leads, Body 3x3mm, Pitch 0.65mm, IPC High Density)
footprint RM-8_M (TSOP, 8-Leads, Body 3x3mm, Pitch 0.65mm, IPC Low Density)
pins: 1 REF (in) "Reference Input Voltage. The REF range is from 0.5 V to VDD. It is referred to the GND pin. Decouple the REF pin closely to the GND pin with a ceramic capacitor of a few uF.", 2 +IN (in) "Analog Input. It is referred to Pin -IN. The voltage range, that is, the difference between +IN and -IN, is 0 V to VREF.", 3 -IN (in) "Analog Input Ground Sense. Connect this pin to either the analog ground plane or a remote sense ground.", 4 GND (power) "Power Supply Ground.", 5 ~{CS} (in) "Chip Select Input. On its falling edge, it initiates the conversions. The part returns to shutdown mode as soon as the conversion is completed. It also enables DOUT. When high, DOUT is high impedance.", 6 DOUT (hiz) "Serial Data Output. The conversion result is output on this pin. It is synchronized to DCLOCK.", 7 DCLOCK (in) "Serial Data Clock Input.", 8 VDD (power) "Power Supply."

## AD7683BCPZRL
designator U?
Single 16-Bit PulSAR Analog-to-Digital Converter with Serial, SPI Interface, 100KSPS, -40 to +85 degC, CP-8-3, Pb-Free, Reel; Generic Part Number: AD7683; Manufacturer: Analog Devices; PartNumber: AD7683BCPZRL; Resolution (Bits): 16; Channels: 1; Throughput Rate (SPS): 100K; Interface: Ser, SPI; DatasheetVersion: Rev.A; PackageVersion: 041608-B; PackageReference: CP-8-3; PackageDescription: 8-Lead Lead Frame Chip Scale Package [LFCSP_WD] 3 x 3 mm Body, Very Very Thin, Dual Lead; Supplier 1: Digi-Key; Supplier Part Number 1: AD7683BCPZRL-ND; Supplier 2: Mouser; Supplier Part Number 2: 584-AD7683BCPZR; RoHS: Y; Packing: Reel; Mounting Technology: Surface Mount; ComponentLink1Description: Manufacturer URL; ComponentLink1URL: http://www.analog.com/en/index.html; ComponentLink2Description: Datasheet; ComponentLink2URL: http://www.analog.com/static/imported-files/data_sheets/AD7683.pdf; ComponentLink3Description: Product URL; ComponentLink3URL: http://www.analog.com/en/analog-to-digital-converters/ad-converters/ad7683/products/product.html
footprint CP-8-3_N (SON, 8-Leads, Body 3x3mm, Pitch 0.65mm, Thermal Pad 2.35x1.6mm, IPC Medium Density)
footprint CP-8-3_L (SON, 8-Leads, Body 3x3mm, Pitch 0.65mm, Thermal Pad 2.35x1.6mm, IPC High Density)
footprint CP-8-3_M (SON, 8-Leads, Body 3x3mm, Pitch 0.65mm, Thermal Pad 2.35x1.6mm, IPC Low Density)
pins: 1 REF (in) "Reference Input Voltage. The REF range is from 0.5 V to VDD. It is referred to the GND pin. Decouple the REF pin closely to the GND pin with a ceramic capacitor of a few uF.", 2 +IN (in) "Analog Input. It is referred to Pin -IN. The voltage range, that is, the difference between +IN and -IN, is 0 V to VREF.", 3 -IN (in) "Analog Input Ground Sense. Connect this pin to either the analog ground plane or a remote sense ground.", 4 GND (power) "Power Supply Ground.", 5 ~{CS} (in) "Chip Select Input. On its falling edge, it initiates the conversions. The part returns to shutdown mode as soon as the conversion is completed. It also enables DOUT. When high, DOUT is high impedance.", 6 DOUT (hiz) "Serial Data Output. The conversion result is output on this pin. It is synchronized to DCLOCK.", 7 DCLOCK (in) "Serial Data Clock Input.", 8 VDD (power) "Power Supply.", 9 EP (power) "Exposed pad."

## AD7683BCPZRL7
designator U?
Single 16-Bit PulSAR Analog-to-Digital Converter with Serial, SPI Interface, 100KSPS, -40 to +85 degC, CP-8-3, Pb-Free, Reel; Generic Part Number: AD7683; Manufacturer: Analog Devices; PartNumber: AD7683BCPZRL7; Resolution (Bits): 16; Channels: 1; Throughput Rate (SPS): 100K; Interface: Ser, SPI; DatasheetVersion: Rev.A; PackageVersion: 041608-B; PackageReference: CP-8-3; PackageDescription: 8-Lead Lead Frame Chip Scale Package [LFCSP_WD] 3 x 3 mm Body, Very Very Thin, Dual Lead; Supplier 1: Digi-Key; Supplier Part Number 1: AD7683BCPZRL7TR-ND; Supplier 2: Digi-Key; Supplier Part Number 2: AD7683BCPZRL7CT-ND; Supplier 3: Digi-Key; Supplier Part Number 3: AD7683BCPZRL7DKR-ND; Supplier 4: Mouser; Supplier Part Number 4: 584-AD7683BCPZR7; RoHS: Y; Packing: Reel; Mounting Technology: Surface Mount; ComponentLink1Description: Manufacturer URL; ComponentLink1URL: http://www.analog.com/en/index.html; ComponentLink2Description: Datasheet; ComponentLink2URL: http://www.analog.com/static/imported-files/data_sheets/AD7683.pdf; ComponentLink3Description: Product URL; ComponentLink3URL: http://www.analog.com/en/analog-to-digital-converters/ad-converters/ad7683/products/product.html
footprint CP-8-3_N (SON, 8-Leads, Body 3x3mm, Pitch 0.65mm, Thermal Pad 2.35x1.6mm, IPC Medium Density)
footprint CP-8-3_L (SON, 8-Leads, Body 3x3mm, Pitch 0.65mm, Thermal Pad 2.35x1.6mm, IPC High Density)
footprint CP-8-3_M (SON, 8-Leads, Body 3x3mm, Pitch 0.65mm, Thermal Pad 2.35x1.6mm, IPC Low Density)
pins: 1 REF (in) "Reference Input Voltage. The REF range is from 0.5 V to VDD. It is referred to the GND pin. Decouple the REF pin closely to the GND pin with a ceramic capacitor of a few uF.", 2 +IN (in) "Analog Input. It is referred to Pin -IN. The voltage range, that is, the difference between +IN and -IN, is 0 V to VREF.", 3 -IN (in) "Analog Input Ground Sense. Connect this pin to either the analog ground plane or a remote sense ground.", 4 GND (power) "Power Supply Ground.", 5 ~{CS} (in) "Chip Select Input. On its falling edge, it initiates the conversions. The part returns to shutdown mode as soon as the conversion is completed. It also enables DOUT. When high, DOUT is high impedance.", 6 DOUT (hiz) "Serial Data Output. The conversion result is output on this pin. It is synchronized to DCLOCK.", 7 DCLOCK (in) "Serial Data Clock Input.", 8 VDD (power) "Power Supply.", 9 EP (power) "Exposed pad."

## AD7683BRMZ
designator U?
Single 16-Bit PulSAR Analog-to-Digital Converter with Serial, SPI Interface, 100KSPS, -40 to +85 degC, RM-8, Pb-Free, Tube; Generic Part Number: AD7683; Manufacturer: Analog Devices; PartNumber: AD7683BRMZ; Resolution (Bits): 16; Channels: 1; Throughput Rate (SPS): 100K; Interface: Ser, SPI; DatasheetVersion: Rev.A; PackageVersion: Aug-2005; PackageReference: RM-8; PackageDescription: 8-Lead Mini Small Outline Package [MSOP]; Supplier 1: Digi-Key; Supplier Part Number 1: AD7683BRMZ-ND; Supplier 2: Farnell; Supplier Part Number 2: 1078339; Supplier 3: Newark; Supplier Part Number 3: 19M0886; Supplier 4: Mouser; Supplier Part Number 4: 584-AD7683BRMZ; RoHS: Y; Packing: Tube; Mounting Technology: Surface Mount; Code_JEDEC: MO-187-AA; ComponentLink1Description: Manufacturer URL; ComponentLink1URL: http://www.analog.com/en/index.html; ComponentLink2Description: Datasheet; ComponentLink2URL: http://www.analog.com/static/imported-files/data_sheets/AD7683.pdf; ComponentLink3Description: Package Specification; ComponentLink3URL: http://www.analog.com/static/imported-files/packages/PKG_PDF/MSOP%28RM%29/RM_8.pdf; ComponentLink4Description: Product URL; ComponentLink4URL: http://www.analog.com/en/analog-to-digital-converters/ad-converters/ad7683/products/product.html
footprint RM-8_N (TSOP, 8-Leads, Body 3x3mm, Pitch 0.65mm, IPC Medium Density)
footprint RM-8_L (TSOP, 8-Leads, Body 3x3mm, Pitch 0.65mm, IPC High Density)
footprint RM-8_M (TSOP, 8-Leads, Body 3x3mm, Pitch 0.65mm, IPC Low Density)
pins: 1 REF (in) "Reference Input Voltage. The REF range is from 0.5 V to VDD. It is referred to the GND pin. Decouple the REF pin closely to the GND pin with a ceramic capacitor of a few uF.", 2 +IN (in) "Analog Input. It is referred to Pin -IN. The voltage range, that is, the difference between +IN and -IN, is 0 V to VREF.", 3 -IN (in) "Analog Input Ground Sense. Connect this pin to either the analog ground plane or a remote sense ground.", 4 GND (power) "Power Supply Ground.", 5 ~{CS} (in) "Chip Select Input. On its falling edge, it initiates the conversions. The part returns to shutdown mode as soon as the conversion is completed. It also enables DOUT. When high, DOUT is high impedance.", 6 DOUT (hiz) "Serial Data Output. The conversion result is output on this pin. It is synchronized to DCLOCK.", 7 DCLOCK (in) "Serial Data Clock Input.", 8 VDD (power) "Power Supply."

## AD7683BRMZRL7
designator U?
Single 16-Bit PulSAR Analog-to-Digital Converter with Serial, SPI Interface, 100KSPS, -40 to +85 degC, RM-8, Pb-Free, Reel; Generic Part Number: AD7683; Manufacturer: Analog Devices; PartNumber: AD7683BRMZRL7; Resolution (Bits): 16; Channels: 1; Throughput Rate (SPS): 100K; Interface: Ser, SPI; DatasheetVersion: Rev.A; PackageVersion: Aug-2005; PackageReference: RM-8; PackageDescription: 8-Lead Mini Small Outline Package [MSOP]; Supplier 1: Digi-Key; Supplier Part Number 1: AD7683BRMZRL7TR-ND; Supplier 2: Digi-Key; Supplier Part Number 2: AD7683BRMZRL7CT-ND; Supplier 3: Digi-Key; Supplier Part Number 3: AD7683BRMZRL7DKR-ND; Supplier 4: Newark; Supplier Part Number 4: 59K5226; Supplier 5: Mouser; Supplier Part Number 5: 584-AD7683BRMZR7; RoHS: Y; Packing: Reel; Mounting Technology: Surface Mount; Code_JEDEC: MO-187-AA; ComponentLink1Description: Manufacturer URL; ComponentLink1URL: http://www.analog.com/en/index.html; ComponentLink2Description: Datasheet; ComponentLink2URL: http://www.analog.com/static/imported-files/data_sheets/AD7683.pdf; ComponentLink3Description: Package Specification; ComponentLink3URL: http://www.analog.com/static/imported-files/packages/PKG_PDF/MSOP%28RM%29/RM_8.pdf; ComponentLink4Description: Product URL; ComponentLink4URL: http://www.analog.com/en/analog-to-digital-converters/ad-converters/ad7683/products/product.html
footprint RM-8_N (TSOP, 8-Leads, Body 3x3mm, Pitch 0.65mm, IPC Medium Density)
footprint RM-8_L (TSOP, 8-Leads, Body 3x3mm, Pitch 0.65mm, IPC High Density)
footprint RM-8_M (TSOP, 8-Leads, Body 3x3mm, Pitch 0.65mm, IPC Low Density)
pins: 1 REF (in) "Reference Input Voltage. The REF range is from 0.5 V to VDD. It is referred to the GND pin. Decouple the REF pin closely to the GND pin with a ceramic capacitor of a few uF.", 2 +IN (in) "Analog Input. It is referred to Pin -IN. The voltage range, that is, the difference between +IN and -IN, is 0 V to VREF.", 3 -IN (in) "Analog Input Ground Sense. Connect this pin to either the analog ground plane or a remote sense ground.", 4 GND (power) "Power Supply Ground.", 5 ~{CS} (in) "Chip Select Input. On its falling edge, it initiates the conversions. The part returns to shutdown mode as soon as the conversion is completed. It also enables DOUT. When high, DOUT is high impedance.", 6 DOUT (hiz) "Serial Data Output. The conversion result is output on this pin. It is synchronized to DCLOCK.", 7 DCLOCK (in) "Serial Data Clock Input.", 8 VDD (power) "Power Supply."